# Altium schematic symbol library My Component.SCHLIB: 222 symbols (part 2 of 2)
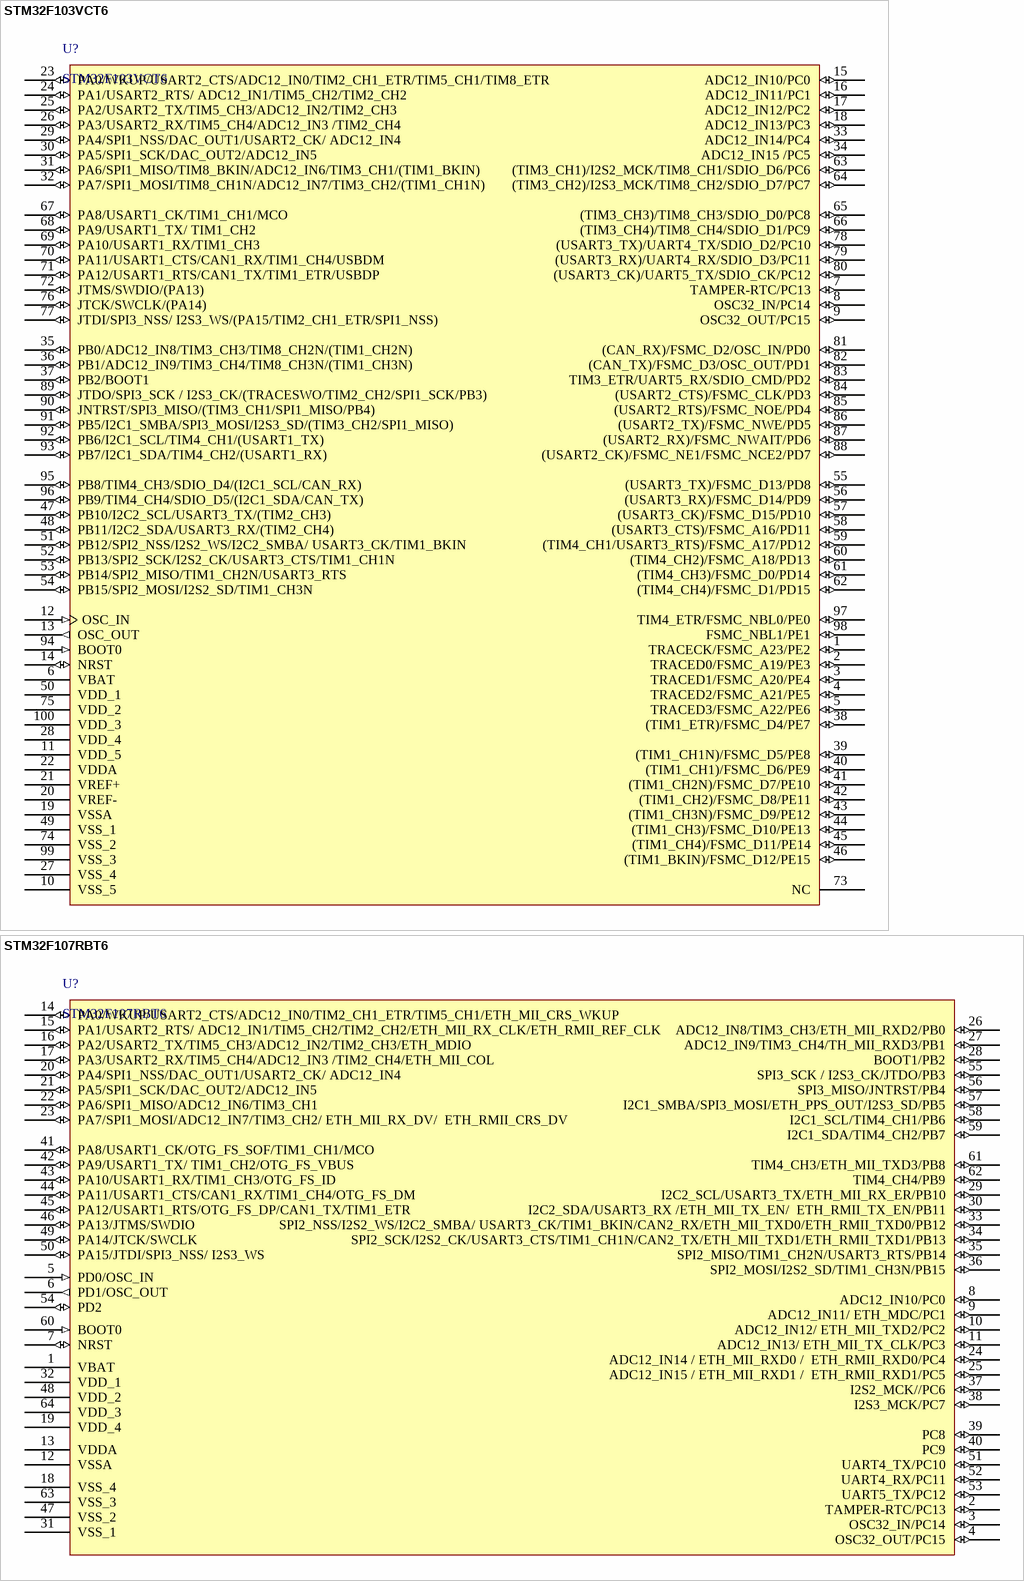
[diagram p12: symbols STM32F103VCT6 to STM32F107RBT6]

## STM32F107RBT6
designator U?
High-density performance line ARM-based 32-bit MCU; Manufacturers: ST; 1000 Price  RMB: 19.55; 10 Price  RMB: 24.82
footprint TQFP-64
pins: 1 VBAT (power), 2 TAMPER-RTC/PC13 (io), 3 OSC32_IN/PC14 (io), 4 OSC32_OUT/PC15 (io), 5 PD0/OSC_IN (in), 6 PD1/OSC_OUT (out), 7 NRST (io), 8 ADC12_IN10/PC0 (io), 9 ADC12_IN11/ ETH_MDC/PC1 (io), 10 ADC12_IN12/ ETH_MII_TXD2/PC2 (io), 11 ADC12_IN13/ ETH_MII_TX_CLK/PC3 (io), 12 VSSA (power), 13 VDDA (power), 14 PA0/WKUP/USART2_CTS/ADC12_IN0/TIM2_CH1_ETR/TIM5_CH1/ETH_MII_CRS_WKUP (io), 15 PA1/USART2_RTS/ ADC12_IN1/TIM5_CH2/TIM2_CH2/ETH_MII_RX_CLK/ETH_RMII_REF_CLK (io), 16 PA2/USART2_TX/TIM5_CH3/ADC12_IN2/TIM2_CH3/ETH_MDIO (io), 17 PA3/USART2_RX/TIM5_CH4/ADC12_IN3 /TIM2_CH4/ETH_MII_COL (io), 18 VSS_4 (power), 19 VDD_4 (power), 20 PA4/SPI1_NSS/DAC_OUT1/USART2_CK/ ADC12_IN4 (io), 21 PA5/SPI1_SCK/DAC_OUT2/ADC12_IN5 (io), 22 PA6/SPI1_MISO/ADC12_IN6/TIM3_CH1 (io), 23 PA7/SPI1_MOSI/ADC12_IN7/TIM3_CH2/ ETH_MII_RX_DV/  ETH_RMII_CRS_DV (io), 24 ADC12_IN14 / ETH_MII_RXD0 /  ETH_RMII_RXD0/PC4 (io), 25 ADC12_IN15 / ETH_MII_RXD1 /  ETH_RMII_RXD1/PC5 (io), 26 ADC12_IN8/TIM3_CH3/ETH_MII_RXD2/PB0 (io), 27 ADC12_IN9/TIM3_CH4/TH_MII_RXD3/PB1 (io), 28 BOOT1/PB2 (io), 29 I2C2_SCL/USART3_TX/ETH_MII_RX_ER/PB10 (io), 30 I2C2_SDA/USART3_RX /ETH_MII_TX_EN/  ETH_RMII_TX_EN/PB11 (io), 31 VSS_1 (power), 32 VDD_1 (power), 33 SPI2_NSS/I2S2_WS/I2C2_SMBA/ USART3_CK/TIM1_BKIN/CAN2_RX/ETH_MII_TXD0/ETH_RMII_TXD0/PB12 (io), 34 SPI2_SCK/I2S2_CK/USART3_CTS/TIM1_CH1N/CAN2_TX/ETH_MII_TXD1/ETH_RMII_TXD1/PB13 (io), 35 SPI2_MISO/TIM1_CH2N/USART3_RTS/PB14 (io), 36 SPI2_MOSI/I2S2_SD/TIM1_CH3N/PB15 (io), 37 I2S2_MCK//PC6 (io), 38 I2S3_MCK/PC7 (io), 39 PC8 (io), 40 PC9 (io), 41 PA8/USART1_CK/OTG_FS_SOF/TIM1_CH1/MCO (io), 42 PA9/USART1_TX/ TIM1_CH2/OTG_FS_VBUS (io), 43 PA10/USART1_RX/TIM1_CH3/OTG_FS_ID (io), 44 PA11/USART1_CTS/CAN1_RX/TIM1_CH4/OTG_FS_DM (io), 45 PA12/USART1_RTS/OTG_FS_DP/CAN1_TX/TIM1_ETR (io), 46 PA13/JTMS/SWDIO (io), 47 VSS_2 (power), 48 VDD_2 (power), 49 PA14/JTCK/SWCLK (io), 50 PA15/JTDI/SPI3_NSS/ I2S3_WS (io), 51 UART4_TX/PC10 (io), 52 UART4_RX/PC11 (io), 53 UART5_TX/PC12 (io), 54 PD2 (io), 55 SPI3_SCK / I2S3_CK/JTDO/PB3 (io), 56 SPI3_MISO/JNTRST/PB4 (io), 57 I2C1_SMBA/SPI3_MOSI/ETH_PPS_OUT/I2S3_SD/PB5 (io), 58 I2C1_SCL/TIM4_CH1/PB6 (io), 59 I2C1_SDA/TIM4_CH2/PB7 (io), 60 BOOT0 (in), 61 TIM4_CH3/ETH_MII_TXD3/PB8 (io), 62 TIM4_CH4/PB9 (io), 63 VSS_3 (power), 64 VDD_3 (power)

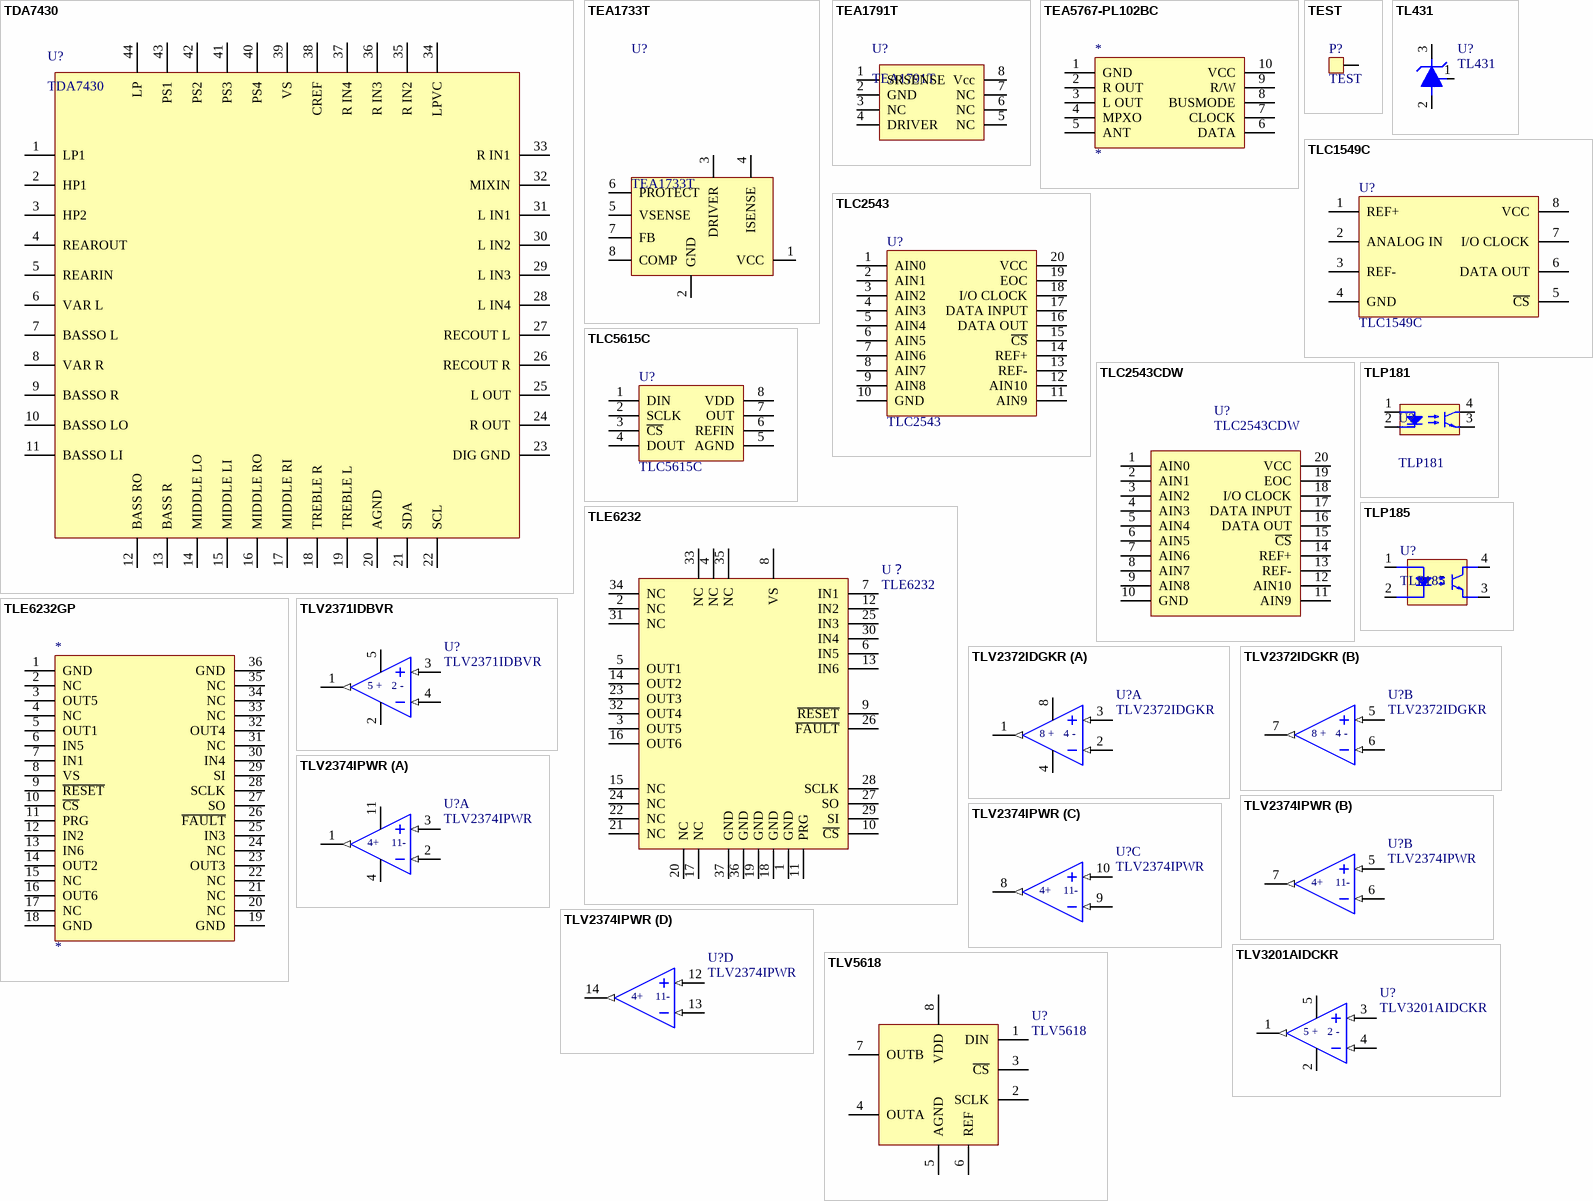
[diagram p9: symbols TDA7430 to TLV5618]

## TDA7430
designator U?
pins: 1 LP1, 2 HP1, 3 HP2, 4 REAROUT, 5 REARIN, 6 VAR L, 7 BASSO L, 8 VAR R, 9 BASSO R, 10 BASSO LO, 11 BASSO LI, 12 BASS RO, 13 BASS R, 14 MIDDLE LO, 15 MIDDLE LI, 16 MIDDLE RO, 17 MIDDLE RI, 18 TREBLE R, 19 TREBLE L, 20 AGND, 21 SDA, 22 SCL, 23 DIG GND, 24 R OUT, 25 L OUT, 26 RECOUT R, 27 RECOUT L, 28 L IN4, 29 L IN3, 30 L IN2, 31 L IN1, 32 MIXIN, 33 R IN1, 34 LPVC, 35 R IN2, 36 R IN3, 37 R IN4, 38 CREF, 39 VS, 40 PS4, 41 PS3, 42 PS2, 43 PS1, 44 LP

## TEA1733T
designator U?
GreenChip SMPS control IC; Manufacturers: NXP; 10 Price  RMB: 2.5; 1000 Price  RMB: 1.5
footprint SOP-8
pins: 1 VCC, 2 GND, 3 DRIVER, 4 ISENSE, 5 VSENSE, 6 PROTECT, 7 FB, 8 COMP

## TEA1791T
designator U?
footprint SOP-8
pins: 1 SRSENSE, 2 GND, 3 NC, 4 DRIVER, 5 NC, 6 NC, 7 NC, 8 Vcc

## TEA5767-PL102BC
designator *
pins: 1 GND, 2 R OUT, 3 L OUT, 4 MPXO, 5 ANT, 6 DATA, 7 CLOCK, 8 BUSMODE, 9 R/W, 10 VCC

## TEST
designator P?
footprint 测试点 (Hold size 1mm)
pins: 1 T

## TL431
designator U?
footprint Model Name (Model Description)
pins: 1, 2, 3

## TLC1549C
designator U?
10-BIT ADC
pins: 1 REF+, 2 ANALOG IN, 3 REF-, 4 GND, 5 ~{CS}, 6 DATA OUT, 7 I/O CLOCK, 8 VCC

## TLC2543
designator U?
12-bit ADC
footprint SOP-20
pins: 1 AIN0, 2 AIN1, 3 AIN2, 4 AIN3, 5 AIN4, 6 AIN5, 7 AIN6, 8 AIN7, 9 AIN8, 10 GND, 11 AIN9, 12 AIN10, 13 REF-, 14 REF+, 15 ~{CS}, 16 DATA OUT, 17 DATA INPUT, 18 I/O CLOCK, 19 EOC, 20 VCC

## TLC2543CDW
designator U?
12-BIT ANALOG-TO-DIGITAL CONVERTERS  WITH SERIAL CONTROL AND 11 ANALOG INPUTS; Manufacturers: TI; 1000 Price  RMB: 19; 10 Price  RMB: 24; Manufacturer's Footprint: *
footprint SOIC-20
pins: 1 AIN0, 2 AIN1, 3 AIN2, 4 AIN3, 5 AIN4, 6 AIN5, 7 AIN6, 8 AIN7, 9 AIN8, 10 GND, 11 AIN9, 12 AIN10, 13 REF-, 14 REF+, 15 ~{CS}, 16 DATA OUT, 17 DATA INPUT, 18 I/O CLOCK, 19 EOC, 20 VCC

## TLC5615C
designator U?
10-bit DAC
pins: 1 DIN, 2 SCLK, 3 ~{CS}, 4 DOUT, 5 AGND, 6 REFIN, 7 OUT, 8 VDD

## TLE6232
designator U？
footprint HSOP-20
pins: 1 GND, 2 NC, 3 OUT5, 4 NC, 5 OUT1, 6 IN5, 7 IN1, 8 VS, 9 ~{RESET}, 10 ~{CS}, 11 PRG, 12 IN2, 13 IN6, 14 OUT2, 15 NC, 16 OUT6, 17 NC, 18 GND, 19 GND, 20 NC, 21 NC, 22 NC, 23 OUT3, 24 NC, 25 IN3, 26 ~{FAULT}, 27 SO, 28 SCLK, 29 SI, 30 IN4, 31 NC, 32 OUT4, 33 NC, 34 NC, 35 NC, 36 GND, 37 GND

## TLE6232GP
designator *
pins: 1 GND, 2 NC, 3 OUT5, 4 NC, 5 OUT1, 6 IN5, 7 IN1, 8 VS, 9 ~{RESET}, 10 ~{CS}, 11 PRG, 12 IN2, 13 IN6, 14 OUT2, 15 NC, 16 OUT6, 17 NC, 18 GND, 19 GND, 20 NC, 21 NC, 22 NC, 23 OUT3, 24 NC, 25 IN3, 26 ~{FAULT}, 27 SO, 28 SCLK, 29 SI, 30 IN4, 31 NC, 32 OUT4, 33 NC, 34 NC, 35 NC, 36 GND

## TLP181
designator U?
footprint TLP181
pins: 1, 2, 3, 4

## TLP185
designator U?
footprint TLP181
pins: 1, 2, 3, 4

## TLV2371IDBVR
designator U?
SINGLE-SUPPLY, RAIL-TO-RAIL  OPERATIONAL AMPLIFIERS; Manufacturers: TI; 1000 Price  RMB: 4.25; 10 Price  RMB: 5; Manufacturer's Footprint: *
footprint SOT23-5
pins: 1 OUT (out), 2 V-, 3 IN+ (in), 4 IN- (in), 5 V+
text: 5 +; 2 -

## TLV2372IDGKR
designator U?
SINGLE-SUPPLY, RAIL-TO-RAIL  OPERATIONAL AMPLIFIERS; Manufacturers: TI; 1000 Price  RMB: 3; 10 Price  RMB: 5; Manufacturer's Footprint: *
footprint MSOP-8
part A pins: 1 OUT (out), 2 IN- (in), 3 IN+ (in), 4 V-, 8 V+
part B pins: 5 IN+ (in), 6 IN- (in), 7 OUT (out)
part A text: 8 +; 4 -
part B text: 8 +; 4 -

## TLV2374IPWR
designator U?
SINGLE-SUPPLY, RAIL-TO-RAIL  OPERATIONAL AMPLIFIERS; Manufacturers: TI; Manufacturer's Footprint: TSSOP14; 1000 Price  RMB: 3; 10 Price  RMB: 5
footprint TSSOP-14
part A pins: 1 OUT (out), 2 IN- (in), 3 IN+ (in), 4 V-, 11 V+
part B pins: 5 IN+ (in), 6 IN- (in), 7 OUT (out)
part C pins: 8 OUT (out), 9 IN- (in), 10 IN+ (in)
part D pins: 12 IN+ (in), 13 IN- (in), 14 OUT (out)
part A text: 4+; 11-
part B text: 4+; 11-
part C text: 4+; 11-
part D text: 4+; 11-

## TLV3201AIDCKR
designator U?
40-ns, microPOWER, Push-Pull Output Comparators; Manufacturers: TI; Manufacturer's Footprint: SC70; 1000 Price  RMB: 4.25; 10 Price  RMB: 5
footprint SOT323-5 (Footprint not found)
pins: 1 OUT (out), 2 V-, 3 IN+ (in), 4 IN- (in), 5 V+
text: 5 +; 2 -

## TLV5618
designator U?
pins: 1 DIN, 2 SCLK, 3 ~{CS}, 4 OUTA, 5 AGND, 6 REF, 7 OUTB, 8 VDD

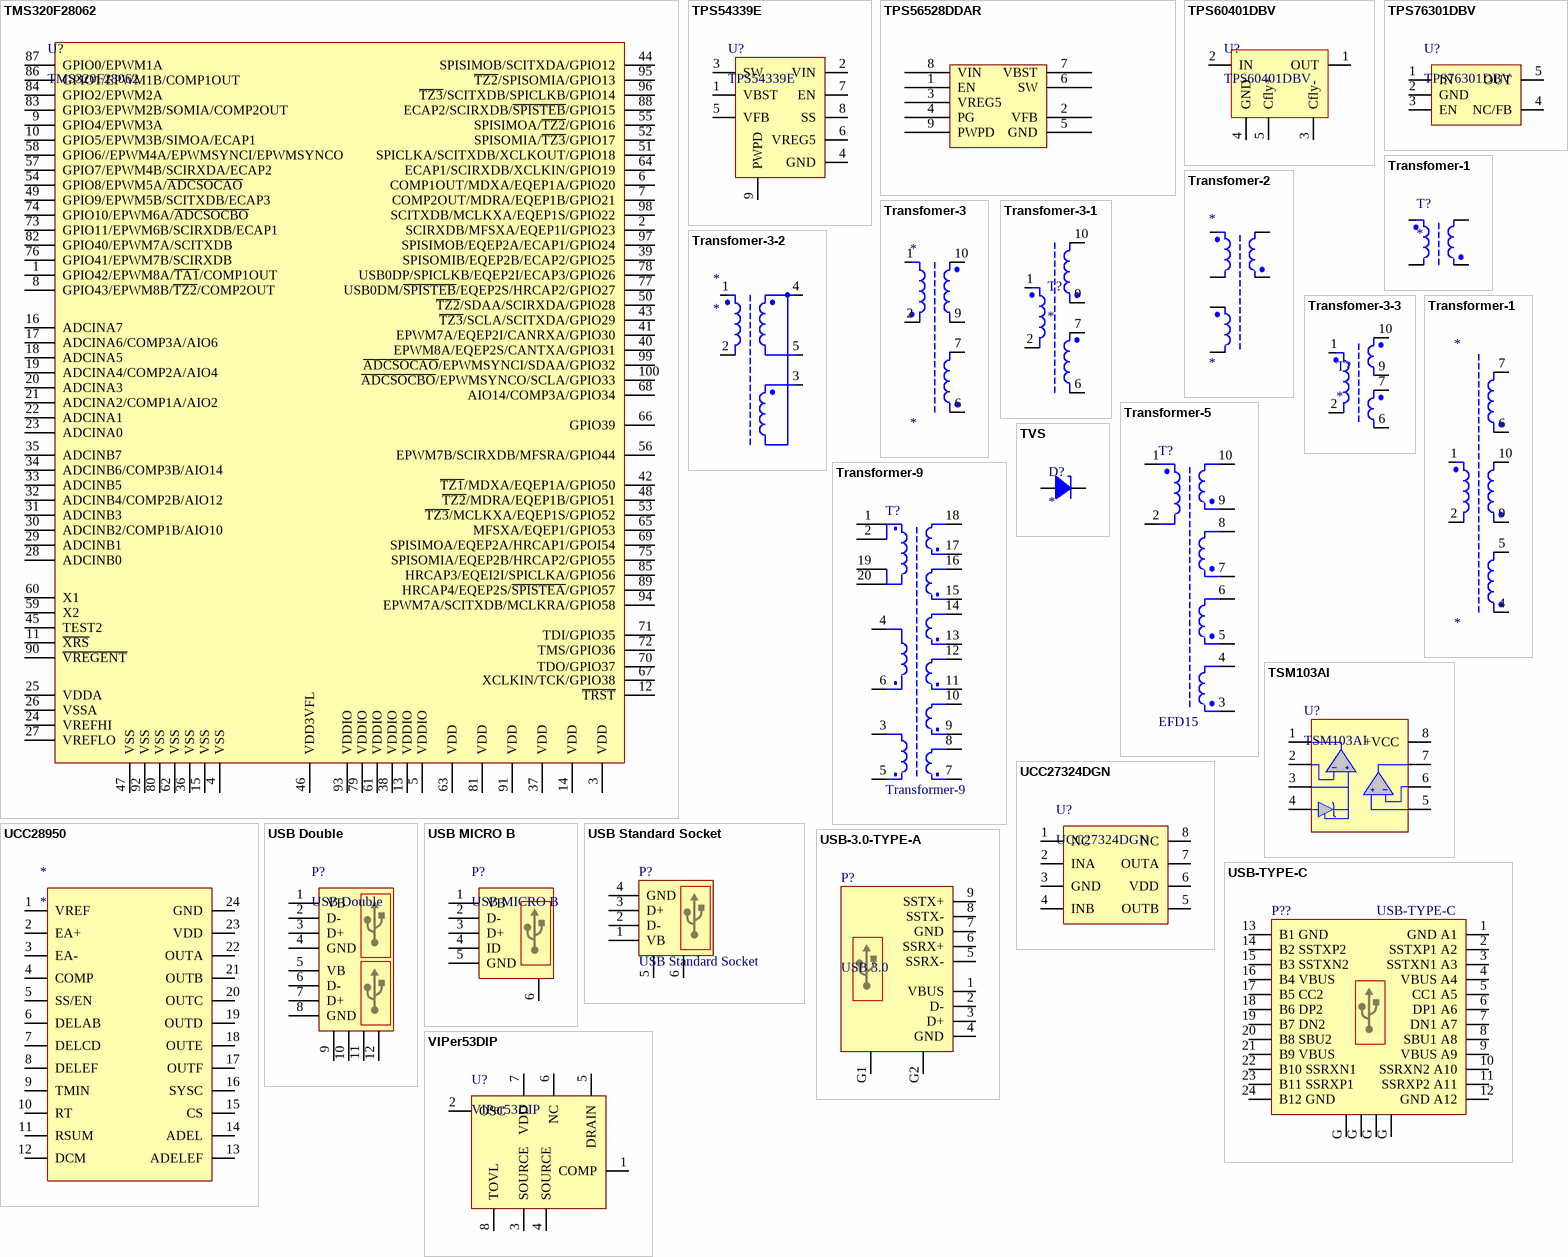
[diagram p10: symbols TMS320F28062 to VIPer53DIP]

## TMS320F28062
designator U?
footprint TQFP-100
pins: 1 GPIO42/EPWM8A/~{TA1}/COMP1OUT, 2 SCIRXDB/MFSXA/EQEP1I/GPIO23, 3 VDD, 4 VSS, 5 VDDIO, 6 COMP1OUT/MDXA/EQEP1A/GPIO20, 7 COMP2OUT/MDRA/EQEP1B/GPIO21, 8 GPIO43/EPWM8B/~{TZ2}/COMP2OUT, 9 GPIO4/EPWM3A, 10 GPIO5/EPWM3B/SIMOA/ECAP1, 11 ~{XRS}, 12 ~{TRST}, 13 VDDIO, 14 VDD, 15 VSS, 16 ADCINA7, 17 ADCINA6/COMP3A/AIO6, 18 ADCINA5, 19 ADCINA4/COMP2A/AIO4, 20 ADCINA3, 21 ADCINA2/COMP1A/AIO2, 22 ADCINA1, 23 ADCINA0, 24 VREFHI, 25 VDDA, 26 VSSA, 27 VREFLO, 28 ADCINB0, 29 ADCINB1, 30 ADCINB2/COMP1B/AIO10, 31 ADCINB3, 32 ADCINB4/COMP2B/AIO12, 33 ADCINB5, 34 ADCINB6/COMP3B/AIO14, 35 ADCINB7, 36 VSS, 37 VDD, 38 VDDIO, 39 SPISOMIB/EQEP2B/ECAP2/GPIO25, 40 EPWM8A/EQEP2S/CANTXA/GPIO31, 41 EPWM7A/EQEP2I/CANRXA/GPIO30, 42 ~{TZ1}/MDXA/EQEP1A/GPIO50, 43 ~{TZ3}/SCLA/SCITXDA/GPIO29, 44 SPISIMOB/SCITXDA/GPIO12, 45 TEST2, 46 VDD3VFL, 47 VSS, 48 ~{TZ2}/MDRA/EQEP1B/GPIO51, 49 GPIO9/EPWM5B/SCITXDB/ECAP3, 50 ~{TZ2}/SDAA/SCIRXDA/GPIO28, 51 SPICLKA/SCITXDB/XCLKOUT/GPIO18, 52 SPISOMIA/~{TZ3}/GPIO17, 53 ~{TZ3}/MCLKXA/EQEP1S/GPIO52, 54 GPIO8/EPWM5A/~{ADCSOCAO}, 55 SPISIMOA/~{TZ2}/GPIO16, 56 EPWM7B/SCIRXDB/MFSRA/GPIO44, 57 GPIO7/EPWM4B/SCIRXDA/ECAP2, 58 GPIO6//EPWM4A/EPWMSYNCI/EPWMSYNCO, 59 X2, 60 X1, 61 VDDIO, 62 VSS, 63 VDD, 64 ECAP1/SCIRXDB/XCLKIN/GPIO19, 65 MFSXA/EQEP1/GPIO53, 66 GPIO39, 67 XCLKIN/TCK/GPIO38, 68 AIO14/COMP3A/GPIO34, 69 SPISIMOA/EQEP2A/HRCAP1/GPOI54, 70 TDO/GPIO37, 71 TDI/GPIO35, 72 TMS/GPIO36, 73 GPIO11/EPWM6B/SCIRXDB/ECAP1, 74 GPIO10/EPWM6A/~{ADCSOCBO}, 75 SPISOMIA/EQEP2B/HRCAP2/GPIO55, 76 GPIO41/EPWM7B/SCIRXDB, 77 USB0DM/~{SPISTEB}/EQEP2S/HRCAP2/GPIO27, 78 USB0DP/SPICLKB/EQEP2I/ECAP3/GPIO26, 79 VDDIO, 80 VSS, 81 VDD, 82 GPIO40/EPWM7A/SCITXDB, 83 GPIO3/EPWM2B/SOMIA/COMP2OUT, 84 GPIO2/EPWM2A, 85 HRCAP3/EQEI2I/SPICLKA/GPIO56, 86 GPIO1/EPWM1B/COMP1OUT, 87 GPIO0/EPWM1A, 88 ECAP2/SCIRXDB/~{SPISTEB}/GPIO15, 89 HRCAP4/EQEP2S/~{SPISTEA}/GPIO57, 90 ~{VREGENT}, 91 VDD, 92 VSS, 93 VDDIO, 94 EPWM7A/SCITXDB/MCLKRA/GPIO58, 95 ~{TZ2}/SPISOMIA/GPIO13, 96 ~{TZ3}/SCITXDB/SPICLKB/GPIO14, 97 SPISIMOB/EQEP2A/ECAP1/GPIO24, 98 SCITXDB/MCLKXA/EQEP1S/GPIO22, 99 ~{ADCSOCAO}/EPWMSYNCI/SDAA/GPIO32, 100 ~{ADCSOCBO}/EPWMSYNCO/SCLA/GPIO33

## TPS54339E
designator U?
Manufacturers: TI; 10 Price  RMB: *; 1000 Price  RMB: *; Manufacturer's Footprint: *
footprint Model Name (Footprint not found)
pins: 1 VBST, 2 VIN, 3 SW, 4 GND, 5 VFB, 6 VREG5, 7 EN, 8 SS, 9 PWPD

## TPS56528DDAR
designator *
pins: 1 EN, 2 VFB, 3 VREG5, 4 PG, 5 GND, 6 SW, 7 VBST, 8 VIN, 9 PWPD

## TPS60401DBV
designator U?
Unregulated 60-mA Charge Pump Voltage Inverter; Manufacturers: TI; 10 Price  RMB: 5; 1000 Price  RMB: 3.8; Manufacturer's Footprint: *
footprint SOT23-5
pins: 1 OUT, 2 IN, 3 Cfly-, 4 GND, 5 Cfly+

## TPS76301DBV
designator U?
Low-Power 150mA Low-Dropout Linear Regulators; Manufacturers: TI; 10 Price  RMB: 1.7; 1000 Price  RMB: 1; Manufacturer's Footprint: *
footprint SOT23-5
pins: 1 IN, 2 GND, 3 EN, 4 NC/FB, 5 OUT

## Transfomer-1
designator T?
pins: 1, 2, 3, 4, 8, 9, 10, 12, 13, 14

## Transfomer-2
designator *
pins: 1, 2, 3, 4, 5, 6, 7, 8, 9, 10, 12, 13, 14

## Transfomer-3
designator *
pins: 1, 2, 6, 7, 9, 10

## Transfomer-3-1
designator T?
pins: 1, 2, 6, 7, 9, 10

## Transfomer-3-2
designator *
pins: 1, 2, 3, 4, 5

## Transfomer-3-3
designator T?
10 Price  RMB: *
pins: 1, 2, 6, 7, 9, 10

## Transformer-1
designator *
pins: 1, 2, 4, 5, 6, 7, 9, 10

## Transformer-5
designator T?, comment EFD15
footprint T-EFD15 (SMD)
pins: 1, 2, 3, 4, 5, 6, 7, 8, 9, 10

## Transformer-9
designator T?
footprint Transforme-PCB
pins: 1, 2, 3, 4, 5, 6, 7, 8, 9, 10, 11, 12, 13, 14, 15, 16, 17, 18, 19, 20

## TSM103AI
designator U?
footprint SOP-8
pins: 1 OUT1, 2 -IN1, 3 +IN1, 4 -VCC, 5 +IN2, 6 -IN2, 7 OUT2, 8 +VCC

## TVS
designator D?
pins: 1 A, 2 K

## UCC27324DGN
designator U?
Dual 4-A Peak High-Speed Low-Side Power-MOSFET Drivers; Manufacturers: TI; 1000 Price  RMB: *; 10 Price  RMB: *
footprint MSOP PowerPAD-8
pins: 1 NC, 2 INA, 3 GND, 4 INB, 5 OUTB, 6 VDD, 7 OUTA, 8 NC

## UCC28950
designator *
pins: 1 VREF, 2 EA+, 3 EA-, 4 COMP, 5 SS/EN, 6 DELAB, 7 DELCD, 8 DELEF, 9 TMIN, 10 RT, 11 RSUM, 12 DCM, 13 ADELEF, 14 ADEL, 15 CS, 16 SYSC, 17 OUTF, 18 OUTE, 19 OUTD, 20 OUTC, 21 OUTB, 22 OUTA, 23 VDD, 24 GND

## USB Double
designator P?
Double 90 degrees Interface USB; 10 Price  RMB: 0.5; 1000 Price  RMB: 0.31; Manufacturers: *
footprint USB Double
pins: 1 VB, 2 D-, 3 D+, 4 GND, 5 VB, 6 D-, 7 D+, 8 GND, 9, 10, 11, 12

## USB MICRO B
designator P?
10 Price  RMB: 0.3; 1000 Price  RMB: 0.2; Manufacturers: *
footprint USB MICRO B ALL SMT
pins: 1 VB, 2 D-, 3 D+, 4 ID, 5 GND, 6

## USB Standard Socket
designator P?
10 Price  RMB: 0.3; 1000 Price  RMB: 0.2; Manufacturers: *
footprint USB Standard Socket
pins: 1 VB, 2 D-, 3 D+, 4 GND, 5, 6

## USB-3.0-TYPE-A
designator P?, comment USB 3.0
USB 3.0 Standard Socket; 10 Price  RMB: 0.3; 1000 Price  RMB: 0.2; Manufacturers: *
footprint USB Standard Socket
pins: 1 VBUS, 2 D-, 3 D+, 4 GND, 5 SSRX-, 6 SSRX+, 7 GND, 8 SSTX-, 9 SSTX+, G1, G2

## USB-TYPE-C
designator P??
USB-TYPE-C Connector; 10 Price  RMB: *; 1000 Price  RMB: *; Manufacturers: *
pins: 1 GND A1, 2 SSTXP1 A2, 3 SSTXN1 A3, 4 VBUS A4, 5 CC1 A5, 6 DP1 A6, 7 DN1 A7, 8 SBU1 A8, 9 VBUS A9, 10 SSRXN2 A10, 11 SSRXP2 A11, 12 GND A12, 13 B1 GND, 14 B2 SSTXP2, 15 B3 SSTXN2, 16 B4 VBUS, 17 B5 CC2, 18 B6 DP2, 19 B7 DN2, 20 B8 SBU2, 21 B9 VBUS, 22 B10 SSRXN1, 23 B11 SSRXP1, 24 B12 GND, G, G, G, G

## VIPer53DIP
designator U?
footprint DIP-8 (Footprint not found)
pins: 1 COMP, 2 OSC, 3 SOURCE, 4 SOURCE, 5 DRAIN, 6 NC, 7 VDD, 8 TOVL

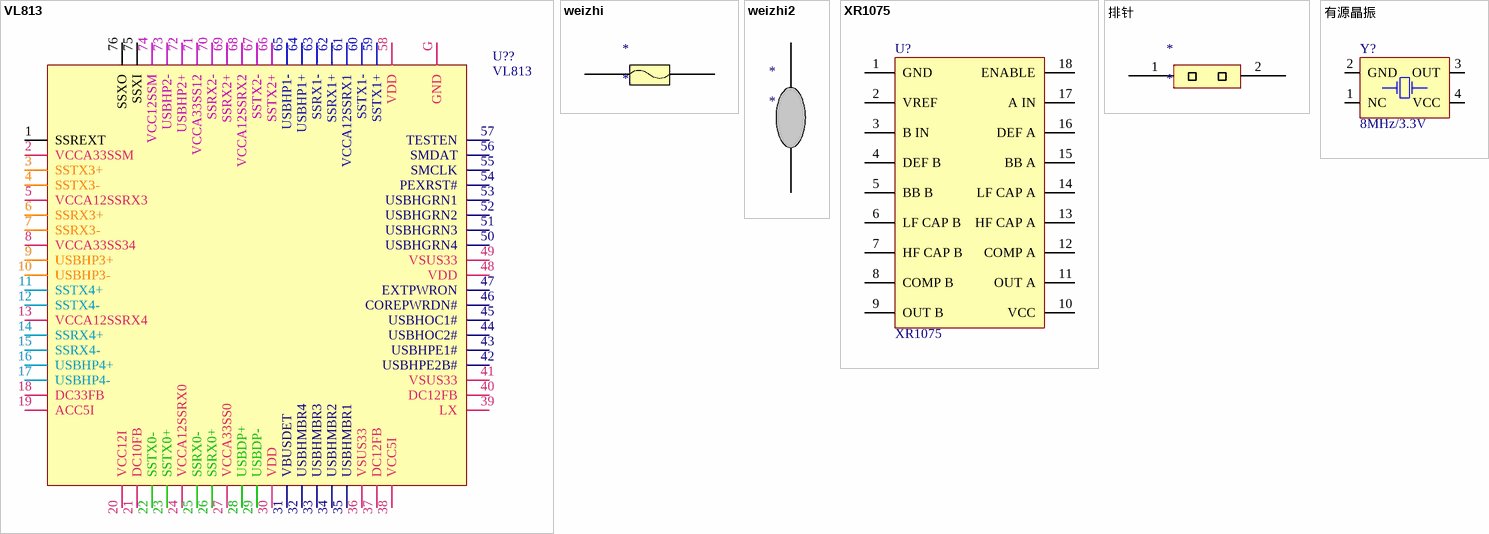
[diagram p11: symbols VL813 to 有源晶振]

## VL813
designator U??
USB 3.0 Hub Controller; Manufacturers: VIA Labs, Inc.; Manufacturer's Footprint: QFN76
footprint QFN76 (Footprint not found)
pins: 1 SSREXT, 2 VCCA33SSM, 3 SSTX3+, 4 SSTX3-, 5 VCCA12SSRX3, 6 SSRX3+, 7 SSRX3-, 8 VCCA33SS34, 9 USBHP3+, 10 USBHP3-, 11 SSTX4+, 12 SSTX4-, 13 VCCA12SSRX4, 14 SSRX4+, 15 SSRX4-, 16 USBHP4+, 17 USBHP4-, 18 DC33FB, 19 ACC5I, 20 VCC12I, 21 DC10FB, 22 SSTX0-, 23 SSTX0+, 24 VCCA12SSRX0, 25 SSRX0-, 26 SSRX0+, 27 VCCA33SS0, 28 USBDP+, 29 USBDP-, 30 VDD, 31 VBUSDET, 32 USBHMBR4, 33 USBHMBR3, 34 USBHMBR2, 35 USBHMBR1, 36 VSUS33, 37 DC12FB, 38 VCC5I, 39 LX, 40 DC12FB, 41 VSUS33, 42 USBHPE2B#, 43 USBHPE1#, 44 USBHOC2#, 45 USBHOC1#, 46 COREPWRDN#, 47 EXTPWRON, 48 VDD, 49 VSUS33, 50 USBHGRN4, 51 USBHGRN3, 52 USBHGRN2, 53 USBHGRN1, 54 PEXRST#, 55 SMCLK, 56 SMDAT, 57 TESTEN, 58 VDD, 59 SSTX1+, 60 SSTX1-, 61 VCCA12SSRX1, 62 SSRX1+, 63 SSRX1-, 64 USBHP1+, 65 USBHP1-, 66 SSTX2+, 67 SSTX2-, 68 VCCA12SSRX2, 69 SSRX2+, 70 SSRX2-, 71 VCCA33SS12, 72 USBHP2+, 73 USBHP2-, 74 VCC12SSM, 75 SSXI, 76 SSXO, G GND

## weizhi
designator *
pins: ?1, ?2

## weizhi2
designator *
pins: ?1, ?2

## XR1075
designator U?
BBE
pins: 1 GND, 2 VREF, 3 B IN, 4 DEF B, 5 BB B, 6 LF CAP B, 7 HF CAP B, 8 COMP B, 9 OUT B, 10 VCC, 11 OUT A, 12 COMP A, 13 HF CAP A, 14 LF CAP A, 15 BB A, 16 DEF A, 17 A IN, 18 ENABLE

## 排针
designator *
pins: 1, 2

## 有源晶振
designator Y?, comment 8MHz/3.3V
5.0 × 3.2 × 1.2 mm ceramic SMD package active Crystal Oscillator; Manufacturers: Without specifying; 1000 Price  RMB: 2.27; 10 Price  RMB: 3.45
simulation model XTAL (SUBCKT)
footprint CRYSTAL5032-4
pins: 1 NC, 2 GND, 3 OUT, 4 VCC